# Altium schematic symbol library AlexEzzat_180420.SchLib: 12 symbols
Pins are listed as number, name and electrical type; pins without a type are passive.

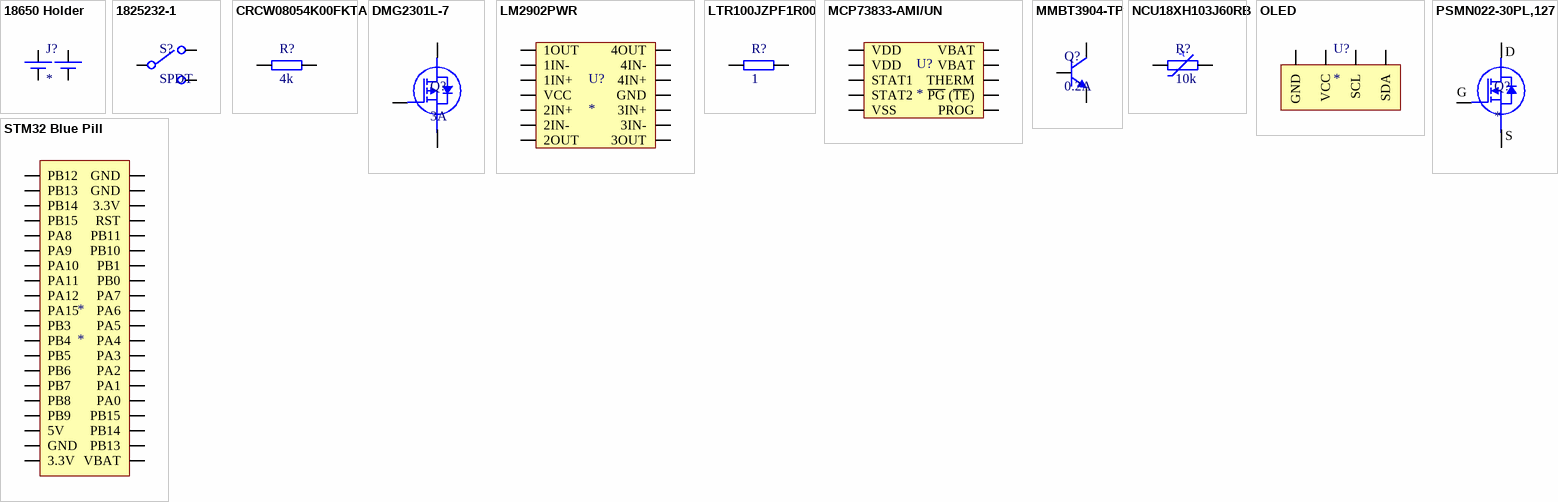
[diagram p0: symbols 18650 Holder to STM32 Blue Pill]

## 18650 Holder
designator J?
2pos 18650 holder
footprint 18650 Holder
pins: 1 1+, 2 2+, 3 1-, 4 4-

## 1825232-1
designator S?, comment SPDT
Slide Switches SLIDE SWITCH SPDT Right Angle; Manufacturer: TE Connectivity AMP; Manufacturer Part Number: 1825232-1; Mechanical Life: 10000Cycles; Actuator Material: Nylon; Voltage Rating (DC): 30V; Current Rating: 200mA; Operating Force: 200gf; Contact Style: Non-Shorting; Switch Travel: 2mm; Number of Positions: 2; PCB Mount Retention: With; Switch Function: On-On; Actuator Type: Standard; Actuator Length: 0.118inch; Tail Length: 0.094inch; Supplier 1: Digi-Key; Supplier Part Number 1: A107673-ND; RoHS: Yes; Category: Slide Switches; Stock 1: 12423; Mount: Through Hole; Contact Material: Copper Alloy; Contact Plating: Silver; Min Operating Temperature: -20°C; Max Operating Temperature: 70°C; Throw Configuration: SPDT; Package Quantity: 19200; Packaging: Tray; Max Voltage Rating (DC): 30V; Termination: PC Pin; Electrical Life: 10000Cycles; Orientation: Right Angle; Contact Current Rating: 200mA; Type: Switch; Length: 0.3563inch; Width: 4.3mm; ELV: Compliant; Flammability Rating: UL94 HB; ComponentLink1URL: https://datasheet.ciiva.com/15085/eng-cd-1825232-b2-15085854.pdf?src-supplier=Digi-Key; ComponentLink1Description: https://datasheet.ciiva.com/15085/eng-cd-1825232-b2-15085854.pdf?src-supplier=Digi-Key
footprint 1825232-1
pins: 1 NC, 2 COM, 3 NO

## CRCW08054K00FKTA
designator R?, comment 4k
RES SMD 4KOHM 1% 1/8W 0805; Manufacturer: Vishay Dale; Manufacturer Part Number: CRCW08054K00FKTA; Resistance: 4kR; Power Rating: 125mW; Voltage Rating: 150V; Temperature Coefficient: 100ppm/°C; Supplier 1: Digi-Key; Supplier Part Number 1: 541-CRCW08054K00FKTACT-ND; RoHS: Yes; Category: Chip SMD Resistors; Stock 1: 2286; Case/Package: 0805; Weight: 0.000194oz; Case Code (Imperial): 0805; Case Code (Metric): 2012; Contact Plating: Tin,Lead; Min Operating Temperature: -55°C; Max Operating Temperature: 155°C; Composition: Thick Film; Features: Automotive AEC-Q200; Packaging: Tape and Reel; Tolerance: 1%; Package Quantity: 5000; Number of Terminations: 2; Max Power Dissipation: 125mW; Length: 0.079inch; Height: 0.02inch; Width: 0.049inch; Radiation Hardening: No; Lead Free: Contains Lead; ComponentLink1URL: https://datasheet.ciiva.com/9075/dcrcw-9075638.pdf?src-supplier=Avnet; ComponentLink1Description: https://datasheet.ciiva.com/9075/dcrcw-9075638.pdf?src-supplier=Avnet
footprint R0805
pins: 1, 2

## DMG2301L-7
designator Q?, comment 3A
MOSFET Transistor, P Channel, -3 A, -20 V, 0.12 ohm, -4.5 V, 1.2 V; Manufacturer: Diodes; Manufacturer Part Number: DMG2301L-7; Drain to Source Voltage (Vdss): 20V; Rds On Max: 120mR; Input Capacitance: 476pF; Max Power Dissipation: 1.5W; Supplier 1: Digi-Key; Supplier Part Number 1: DMG2301L-7DICT-ND; RoHS: Yes; Category: MOSFETs; Stock 1: 17976; Mount: Surface Mount; Case/Package: TO-236-3; Min Operating Temperature: -55°C; Max Operating Temperature: 150°C; Packaging: Tape and Reel; Continuous Drain Current (ID): 3A; ComponentLink1URL: http://www.farnell.com/datasheets/2814385.pdf?src-supplier=Farnell; ComponentLink1Description: http://www.farnell.com/datasheets/2814385.pdf?src-supplier=Farnell; ComponentLink2URL: http://www.mouser.com/ds/2/115/DMG2301L-959562.pdf?src-supplier=Mouser; ComponentLink2Description: http://www.mouser.com/ds/2/115/DMG2301L-959562.pdf?src-supplier=Mouser; ComponentLink3URL: https://www.diodes.com/assets/Datasheets/DMG2301L.pdf?src-supplier=Digi-Key; ComponentLink3Description: https://www.diodes.com/assets/Datasheets/DMG2301L.pdf?src-supplier=Digi-Key; ComponentLink4URL: http://www.farnell.com/datasheets/2814385.pdf?src-supplier=Newark; ComponentLink4Description: http://www.farnell.com/datasheets/2814385.pdf?src-supplier=Newark; ComponentLink5URL: http://www.farnell.com/datasheets/2814385.pdf?src-supplier=Element14; ComponentLink5Description: http://www.farnell.com/datasheets/2814385.pdf?src-supplier=Element14
footprint SOT-23-3
pins: 1 G, 2 S, 3 D

## LM2902PWR
designator U?
LM2902PWR Texas Instruments, Precision, Quad Op Amp, 1.2MHz, 5 ? 24 V, 14-Pin TSSOP; Output Current per Channel: 60mA; Slew Rate: 0.5V/µs; Max Supply Voltage: 26V; Min Dual Supply Voltage: 1.5V; Max Dual Supply Voltage: 13V; Voltage Gain: 100dB; Common Mode Rejection Ratio: 50dB; Number of Circuits: 4; Input Bias Current: 250nA; Input Offset Voltage (Vos): 7mV; Operating Supply Current: 1.4mA; Min Supply Voltage: 3V; Output Current: 30mA; Nominal Supply Current: 3mA; Dual Supply Voltage: 9V; Supplier 1: Digi-Key; Supplier Part Number 1: 296-6600-1-ND; Manufacturer: Texas Instruments; Manufacturer Part Number: LM2902PWR; RoHS: Yes; Category: Amplifiers - Op Amps, Buffer, Instrumentation; Stock 1: 11279; Mount: Surface Mount; Case/Package: TSSOP; Number of Pins: 14; Min Operating Temperature: -40°C; Max Operating Temperature: 125°C; Package Quantity: 1; Packaging: Tape and Reel; Gain Bandwidth Product: 1.2MHz; Number of Elements: 4; Unity Gain Bandwidth Product: 1.2MHz; Number of Channels: 4; Operating Supply Voltage: 13V; Bandwidth: 1.2MHz; Number of Amplifiers: 4; Length: 5mm; Height: 1.15mm; Width: 4.4mm; Radiation Hardening: No; Lead Free: Lead Free; REACH SVHC: No SVHC; ComponentLink1URL: https://datasheet.ciiva.com/1795/lm324-1795520.pdf?src-supplier=Digi-Key; ComponentLink1Description: https://datasheet.ciiva.com/1795/lm324-1795520.pdf?src-supplier=Digi-Key; ComponentLink2URL: https://datasheet.ciiva.com/15129/getdatasheetpartid-49902-15129968.pdf?src-supplier=Verical; ComponentLink2Description: https://datasheet.ciiva.com/15129/getdatasheetpartid-49902-15129968.pdf?src-supplier=Verical; ComponentLink3URL: https://datasheet.ciiva.com/34302/1343700-34302236.pdf?src-supplier=Jameco; ComponentLink3Description: https://datasheet.ciiva.com/34302/1343700-34302236.pdf?src-supplier=Jameco; ComponentLink4URL: https://datasheet.ciiva.com/2974/lm324ka-2974976.pdf?src-supplier=Avnet; ComponentLink4Description: https://datasheet.ciiva.com/2974/lm324ka-2974976.pdf?src-supplier=Avnet; ComponentLink5URL: https://datasheet.ciiva.com/1795/lm224-1795585.pdf?src-supplier=Digi-Key; ComponentLink5Description: https://datasheet.ciiva.com/1795/lm224-1795585.pdf?src-supplier=Digi-Key; ComponentLink6URL: https://datasheet.ciiva.com/22657/1877076-22657189.pdf?src-supplier=Element14; ComponentLink6Description: https://datasheet.ciiva.com/22657/1877076-22657189.pdf?src-supplier=Element14; ComponentLink7URL: https://datasheet.ciiva.com/46382/1877076-46382413.pdf?src-supplier=Element14; ComponentLink7Description: https://datasheet.ciiva.com/46382/1877076-46382413.pdf?src-supplier=Element14; ComponentLink8URL: https://datasheet.ciiva.com/1795/lm224-1795583.pdf?src-supplier=Digi-Key; ComponentLink8Description: https://datasheet.ciiva.com/1795/lm224-1795583.pdf?src-supplier=Digi-Key
footprint TSSOP-14
pins: 1 1OUT, 2 1IN-, 3 1IN+, 4 VCC, 5 2IN+, 6 2IN-, 7 2OUT, 8 3OUT, 9 3IN-, 10 3IN+, 11 GND, 12 4IN+, 13 4IN-, 14 4OUT

## LTR100JZPF1R00
designator R?, comment 1
RES SMD 1 OHM 2W 2512 WIDE; Manufacturer: Rohm; Manufacturer Part Number: LTR100JZPF1R00; Tolerance: 1%; Temperature Coefficient: 100ppm/°C; Resistance: 1R; Supplier 1: Digi-Key; Supplier Part Number 1: LTR100JZPF1R00CT-ND; RoHS: Yes; Category: Chip SMD Resistors; Stock 1: 815; Case/Package: 2512; Case Code (Imperial): 2512; Case Code (Metric): 6432; Min Operating Temperature: -55°C; Max Operating Temperature: 155°C; Max Power Dissipation: 2W; Features: Automotive AEC-Q200; Packaging: Tape and Reel; Composition: Thick Film; Number of Terminations: 2; Length: 0.126inch; Height: 0.028inch; Width: 0.252inch; Lead Free: Lead Free; ComponentLink1URL: http://www.rohm.com/web/global/datasheet/LTR100JZPD/ltr-e?src-supplier=Digi-Key; ComponentLink1Description: http://www.rohm.com/web/global/datasheet/LTR100JZPD/ltr-e?src-supplier=Digi-Key; ComponentLink2URL: https://www.rohm.com/datasheet/LTR100JZPD/ltr-e?src-supplier=Digi-Key; ComponentLink2Description: https://www.rohm.com/datasheet/LTR100JZPD/ltr-e?src-supplier=Digi-Key
footprint 2512-WIDE
pins: 1, 2

## MCP73833-AMI/UN
designator U?
IC LI-ION/LI-POLY CTRLR 10MSOP; Manufacturer: Microchip; Manufacturer Part Number: MCP73833-AMI/UN; Supplier 1: Digi-Key; Supplier Part Number 1: MCP73833-AMI/UN-ND; RoHS: Yes; Category: Battery Management; Stock 1: 8317; ComponentLink1URL: https://datasheet.ciiva.com/1144/1669398-1144512.pdf?src-supplier=Newark; ComponentLink1Description: https://datasheet.ciiva.com/1144/1669398-1144512.pdf?src-supplier=Newark; ComponentLink2URL: https://datasheet.ciiva.com/16298/filehandler-aspxddocname-en027983-16298400.pdf?src-supplier=Future+Electronics; ComponentLink2Description: https://datasheet.ciiva.com/16298/filehandler-aspxddocname-en027983-16298400.pdf?src-supplier=Future+Electronics; ComponentLink3URL: https://datasheet.ciiva.com/1933/22005b-1933560.pdf?src-supplier=Digi-Key; ComponentLink3Description: https://datasheet.ciiva.com/1933/22005b-1933560.pdf?src-supplier=Digi-Key; ComponentLink4URL: https://datasheet.ciiva.com/41463/001085503-da-01-en-ic-li-ion-li-mcp73833-ami-un-msop-10-mcp-41463191.pdf?src-supplier=Conrad; ComponentLink4Description: https://datasheet.ciiva.com/41463/001085503-da-01-en-ic-li-ion-li-mcp73833-ami-un-msop-10-mcp-41463191.pdf?src-supplier=Conrad
footprint MSOP-10
pins: 1 VDD, 2 VDD, 3 STAT1, 4 STAT2, 5 VSS, 6 PROG, 7 ~{PG} (~{TE}), 8 THERM, 9 VBAT, 10 VBAT

## MMBT3904-TP
designator Q?, comment 0.2A
TRANS NPN 40V 0.2A SOT23; Manufacturer: MCC; Manufacturer Part Number: MMBT3904-TP; Current Rating: 100mA; Max Power Dissipation: 350mW; Number of Elements: 1; hFE Min: 40; Frequency: 300MHz; Element Configuration: Single; Max Collector Current: 200mA; Collector Base Voltage (VCBO): 60V; Emitter Base Voltage (VEBO): 6V; Collector Emitter Saturation Voltage: 300mV; Supplier 1: Digi-Key; Supplier Part Number 1: MMBT3904TPMSCT-ND; RoHS: Yes; Category: BJTs; Stock 1: 1134669; Mount: Surface Mount; Case/Package: SOT-23; Number of Pins: 3; Min Operating Temperature: -55°C; Max Operating Temperature: 150°C; Voltage Rating (DC): 40V; Package Quantity: 1; Collector Emitter Voltage (VCEO): 40V; Packaging: Tape and Reel; Gain Bandwidth Product: 300MHz; Transition Frequency: 300MHz; Collector Emitter Breakdown Voltage: 40V; Polarity: NPN; Max Breakdown Voltage: 40V; Power Dissipation: 350mW; Max Frequency: 300MHz; Length: 3.04mm; Height: 1.12mm; Width: 1.4mm; Radiation Hardening: No; Lead Free: Lead Free; ComponentLink1URL: https://datasheet.ciiva.com/972/mmbt3904sot-23-972515.pdf?src-supplier=Digi-Key; ComponentLink1Description: https://datasheet.ciiva.com/972/mmbt3904sot-23-972515.pdf?src-supplier=Digi-Key; ComponentLink2URL: https://datasheet.ciiva.com/16291/mmbt3904sot-23-37005-16291911.pdf?src-supplier=Mouser; ComponentLink2Description: https://datasheet.ciiva.com/16291/mmbt3904sot-23-37005-16291911.pdf?src-supplier=Mouser; ComponentLink3URL: https://datasheet.ciiva.com/15139/getdatasheetpartid-251950-15139820.pdf?src-supplier=Verical; ComponentLink3Description: https://datasheet.ciiva.com/15139/getdatasheetpartid-251950-15139820.pdf?src-supplier=Verical; ComponentLink4URL: https://datasheet.ciiva.com/972/mmbt3904sot-23-972516.pdf?src-supplier=Digi-Key; ComponentLink4Description: https://datasheet.ciiva.com/972/mmbt3904sot-23-972516.pdf?src-supplier=Digi-Key; ComponentLink5URL: https://datasheet.ciiva.com/14546/70055699-14546053.pdf?src-supplier=Allied+Electronics; ComponentLink5Description: https://datasheet.ciiva.com/14546/70055699-14546053.pdf?src-supplier=Allied+Electronics; ComponentLink6URL: https://datasheet.ciiva.com/16742/mmbt3904tsot-523-16742101.pdf?src-supplier=Future+Electronics; ComponentLink6Description: https://datasheet.ciiva.com/16742/mmbt3904tsot-523-16742101.pdf?src-supplier=Future+Electronics
footprint SOT-23-3
pins: 1 B, 2 E, 3 C

## NCU18XH103J60RB
designator R?, comment 10k
THERMISTOR NTC 10KOHM 3380K 0603; Manufacturer: Murata; Manufacturer Part Number: NCU18XH103J60RB; Tolerance: 5%; Max Power Dissipation: 100mW; Supplier 1: Digi-Key; Supplier Part Number 1: 490-16641-1-ND; RoHS: No; Category: Thermistors; Stock 1: 3979; Mount: Surface Mount; Case/Package: 0603; Case Code (Imperial): 0603; Case Code (Metric): 1608; Min Operating Temperature: -40°C; Max Operating Temperature: 125°C; Packaging: Cut Tape; ComponentLink1URL: https://www.murata.com/en-us/products/productdata/8796836233246/L0770E.pdf?src-supplier=Digi-Key; ComponentLink1Description: https://www.murata.com/en-us/products/productdata/8796836233246/L0770E.pdf?src-supplier=Digi-Key; ComponentLink2URL: https://www.murata.com/~/media/webrenewal/support/library/catalog/products/thermistor/r03e.ashx?la=en-us&src-supplier=Digi-Key; ComponentLink2Description: https://www.murata.com/~/media/webrenewal/support/library/catalog/products/thermistor/r03e.ashx?la=en-us&src-supplier=Digi-Key
footprint 0603
pins: 1, 2
text: -t

## OLED
designator U?
I2C 5V OLED
footprint OLED
pins: 1 GND, 2 VCC, 3 SCL, 4 SDA

## PSMN022-30PL,127
designator Q?
NEXPERIA - PSMN022-30PL,127 - MOSFET, N CHANNEL, 30V, 30A, 3-TO-220AB; Supplier 1: Digi-Key; Supplier Part Number 1: 1727-5893-ND; Manufacturer: Nexperia; Manufacturer Part Number: PSMN022-30PL,127; RoHS: No; Stock 1: 15631; ComponentLink1URL: http://www.farnell.com/datasheets/655077.pdf?src-supplier=Newark; ComponentLink1Description: http://www.farnell.com/datasheets/655077.pdf?src-supplier=Newark
footprint TO-220
pins: 1 G, 2 D, 3 S

## STM32 Blue Pill
designator *
footprint STM32 Blue Pill
pins: 1 PB12, 2 PB13, 3 PB14, 4 PB15, 5 PA8, 6 PA9, 7 PA10, 8 PA11, 9 PA12, 10 PA15, 11 PB3, 12 PB4, 13 PB5, 14 PB6, 15 PB7, 16 PB8, 17 PB9, 18 5V, 19 GND, 20 3.3V, 21 VBAT, 22 PB13, 23 PB14, 24 PB15, 25 PA0, 26 PA1, 27 PA2, 28 PA3, 29 PA4, 30 PA5, 31 PA6, 32 PA7, 33 PB0, 34 PB1, 35 PB10, 36 PB11, 37 RST, 38 3.3V, 39 GND, 40 GND